# Altium schematic symbol library 51 MCU Development board.SchLib: 8 symbols
Pins are listed as number, name and electrical type; pins without a type are passive.

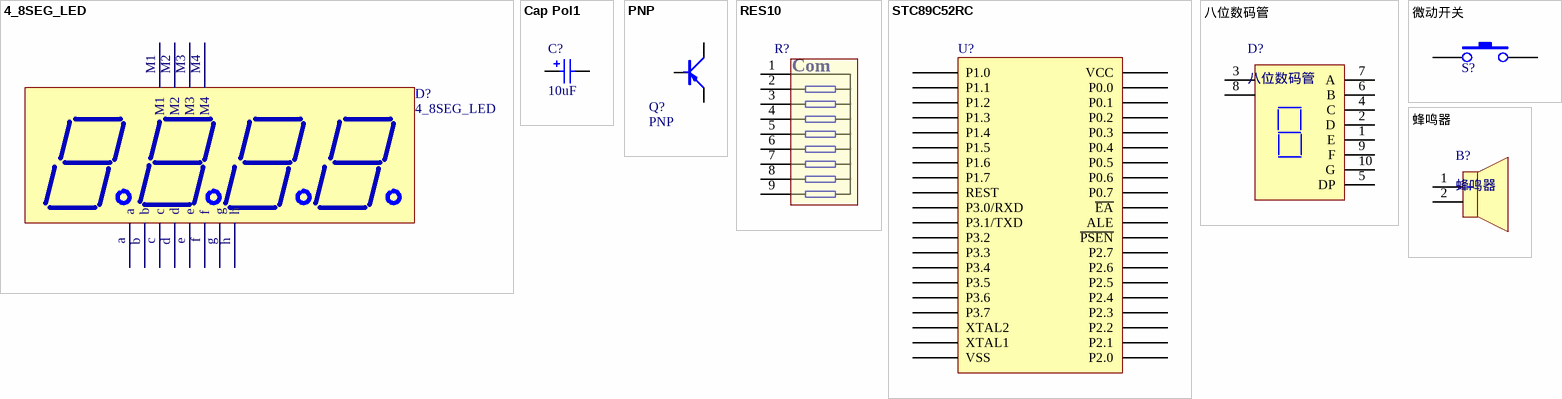
[diagram p0: symbols 4_8SEG_LED to 蜂鸣器]

## 4_8SEG_LED
designator D?
footprint 4BIT_8SEG_LED
footprint 4-8SLED(S)
pins: a, b, c, d, e, f, g, h, M1, M2, M3, M4

## Cap Pol1
designator C?  value 10uF  (hidden comment: Cap Pol1)
Polarized Capacitor (Radial); Published: 8-Jun-2000; LatestRevisionDate: 17-Jul-2002; LatestRevisionNote: Re-released for DXP Platform.; PackageReference: RB7.6-15; Publisher: Altium Limited; PackageDescription: Polarized Capacitor (Radial); 2 Leads
footprint 10UF
pins: 1, 2
1 alternate drawing of the same symbol

## PNP
designator Q?
footprint TO-92
pins: B b, C c, E e

## RES10
designator R?  (value not drawn)
footprint SIP9
pins: 1 Com, 2, 3, 4, 5, 6, 7, 8, 9

## STC89C52RC
designator U?  (value not drawn)
footprint DIP-40W
pins: 1 P1.0 (power), 2 P1.1 (power), 3 P1.2 (power), 4 P1.3 (power), 5 P1.4 (power), 6 P1.5 (power), 7 P1.6 (power), 8 P1.7 (power), 9 REST (power), 10 P3.0/RXD (power), 11 P3.1/TXD (power), 12 P3.2 (power), 13 P3.3 (power), 14 P3.4 (power), 15 P3.5 (power), 16 P3.6 (power), 17 P3.7 (power), 18 XTAL2 (power), 19 XTAL1 (power), 20 VSS (power), 21 P2.0 (power), 22 P2.1 (power), 23 P2.2 (power), 24 P2.3 (power), 25 P2.4 (power), 26 P2.5 (power), 27 P2.6 (power), 28 P2.7 (power), 29 ~{P}~{S}~{E}~{N} (power), 30 ALE (power), 31 ~{E}~{A} (power), 32 P0.7 (power), 33 P0.6 (power), 34 P0.5 (power), 35 P0.4 (power), 36 P0.3 (power), 37 P0.2 (power), 38 P0.1 (power), 39 P0.0 (power), 40 VCC (power)

## 八位数码管
designator D?
footprint 八位数码管
pins: 1 E, 2 D, 3, 4 C, 5 DP, 6 B, 7 A, 8, 9 F, 10 G

## 微动开关
designator S?  (value not drawn)
footprint AN66
pins: 1, 3

## 蜂鸣器
designator B?
footprint 蜂鸣器
pins: 1, 2